# EAGLE library part ADAFRUIT-BNO055-IMU (library rover12)
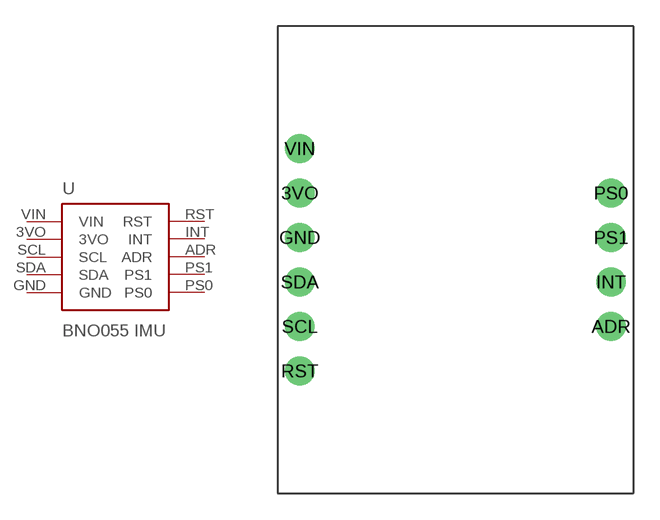
[diagram p5: symbol with the pads of ADAFRUIT-BNO055-IMU; footprint ADAFRUIT-BNO055-IMU]

Designator prefix U

## ADAFRUIT-BNO055-IMU  [ADAFRUIT-BNO055-IMU]
3VO  3VO  pwr
ADR  ADR
GND  GND  pwr
INT  INT
PS0  PS0
PS1  PS1
RST  RST
SCL  SCL
SDA  SDA
VIN  VIN  pwr

## Footprint ADAFRUIT-BNO055-IMU (pad centres in mm)
drill 1.016 pad 1.676: 3VO 0,10.16; ADR 17.78,2.54; GND 0,7.62; INT 17.78,5.08; PS0 17.78,10.16; PS1 17.78,7.62; RST 0,0; SCL 0,2.54; SDA 0,5.08; VIN 0,12.7